# Altium footprint library SSOP-20_208mil.PcbLib: 1 footprints
Each footprint in its own frame and in the unit in brackets; x right, y up, seen from the top. Pads: shape width x height; smd on the part's side, far side on the other; paste and mask are expansions set on the pad; w line width, h text height; cw(c..) or ccw(c..) is an arc to the next point about the centre after c.
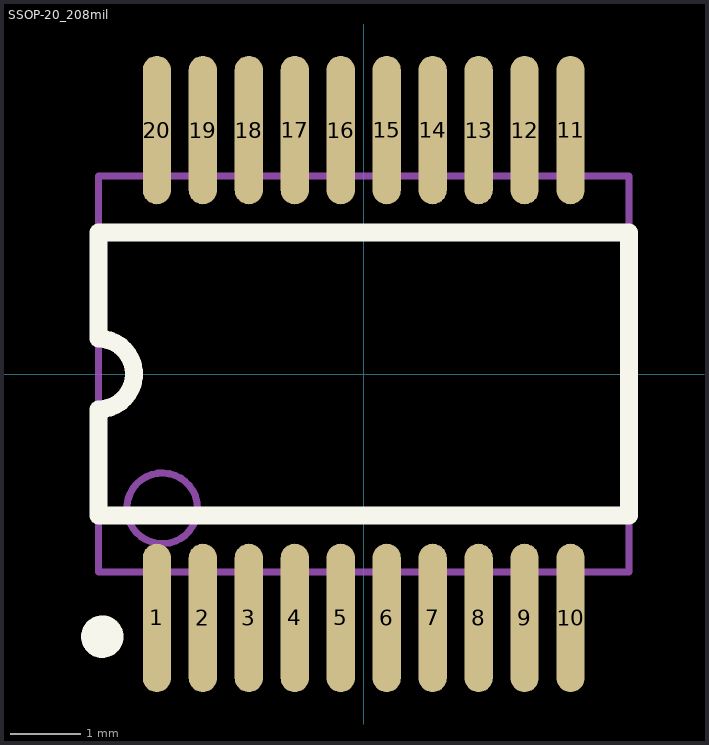
[diagram p0: the footprint, top view; thin cyan lines are the x and y axes]

## SSOP-20_208mil [mm]
pads (20):
  oval 0.4x2.1 smd mask+0.051: 1(-2.925,-3.45) 2(-2.275,-3.45) 3(-1.625,-3.45) 4(-0.975,-3.45) 5(-0.325,-3.45) 6(0.325,-3.45) 7(0.975,-3.45) 8(1.625,-3.45) 9(2.275,-3.45) 10(2.925,-3.45) 11(2.925,3.45) 12(2.275,3.45) 13(1.625,3.45) 14(0.975,3.45) 15(0.325,3.45) 16(-0.325,3.45) 17(-0.975,3.45) 18(-1.625,3.45) 19(-2.275,3.45) 20(-2.925,3.45)
Top Overlay:
  circle w0.3: c-3.697,-3.715 r0.15
  lines w0.254: -3.75,-2 -3.75,-0.5 ccw(c-3.75,0) -3.75,0.5 -3.75,2 3.75,2 3.75,-2 -3.75,-2
Mechanical 13:
  circle w0.1: c-2.85,-1.9 r0.5
  lines w0.1: -3.75,-2.8 3.75,-2.8 3.75,2.8 -3.75,2.8 -3.75,-2.8